# EAGLE library part AD5420 (library analog-devices)
DAC Single-Channel, 12-/16-Bit, Serial Input, 4 mA to 20 mA, Current Source DAC
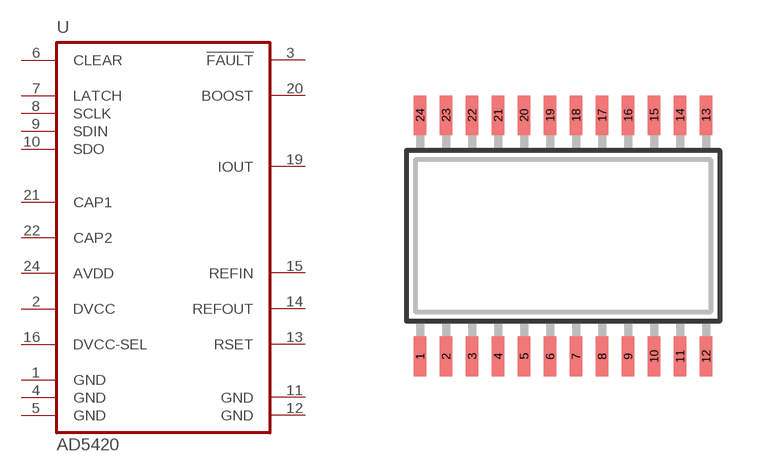
[diagram p37: symbol with the pads of TSSOP24_EP; footprint TSSOP24_EP]

Designator prefix U

## AD5420 (P1I: o)  [TSSOP24_EP]
1  GND  pwr
2  DVCC  pwr
3  !FAULT!  out
4  GND  pwr
5  GND  pwr
6  CLEAR  in
7  LATCH  in
8  SCLK  in
9  SDIN  in
10  SDO
11  GND  pwr
12  GND  pwr
13  RSET  pas
14  REFOUT  out
15  REFIN  in
16  DVCC-SEL
19  IOUT  out
20  BOOST
21  CAP1  pas
22  CAP2  pas
24  AVDD  pwr

## Footprint TSSOP24_EP (pad centres in mm)
Thin Shrink Small Outline Plastic 24 body 7.9 x 4.5 mm stop mask for exposed thermal ground underneath
smd 0.305 x 0.991: 1 -3.575,-3.018; 2 -2.925,-3.018; 3 -2.275,-3.018; 4 -1.625,-3.018; 5 -0.975,-3.018; 6 -0.325,-3.018; 7 0.325,-3.018; 8 0.975,-3.018; 9 1.625,-3.018; 10 2.275,-3.018; 11 2.925,-3.018; 12 3.575,-3.018; 13 3.575,3.018; 14 2.925,3.018; 15 2.275,3.018; 16 1.625,3.018; 17 0.975,3.018; 18 0.325,3.018; 19 -0.325,3.018; 20 -0.975,3.018; 21 -1.625,3.018; 22 -2.275,3.018; 23 -2.925,3.018; 24 -3.575,3.018